# Altium footprint library Fuse.PcbLib: 117 footprints (part 8 of 8)
Each footprint in its own frame and in the unit in brackets; x right, y up, seen from the top. Pads: shape width x height; smd on the part's side, far side on the other; paste and mask are expansions set on the pad; w line width, h text height; cw(c..) or ccw(c..) is an arc to the next point about the centre after c.
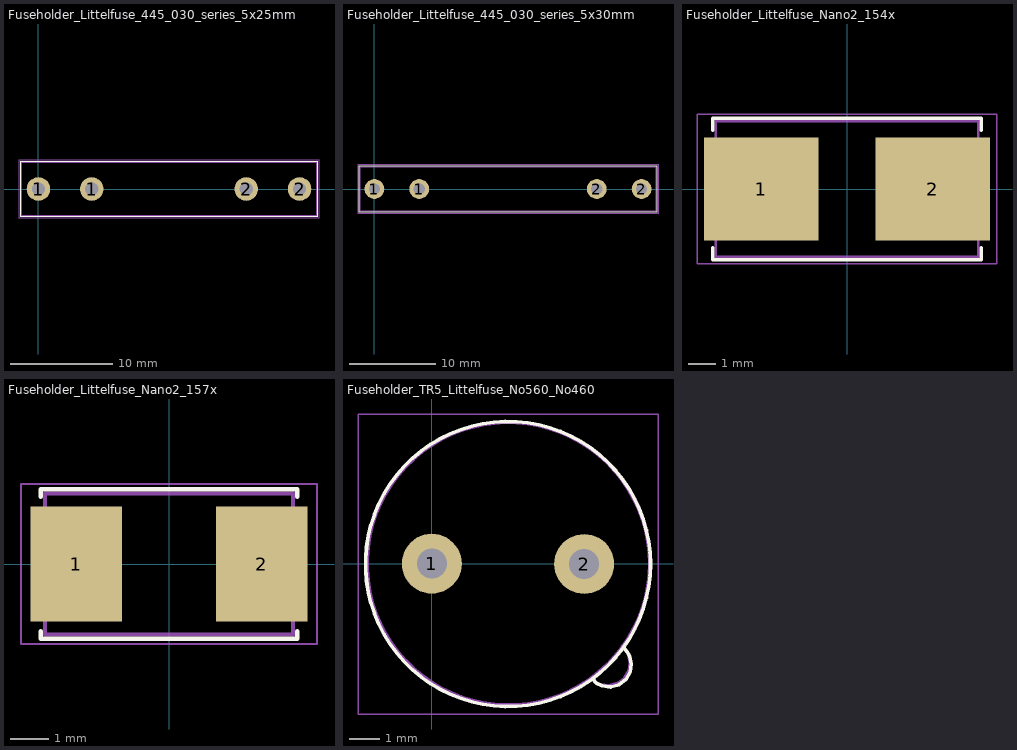
[diagram p7: the footprints below, top view; thin cyan lines are the x and y axes]

## Fuseholder_Littelfuse_445_030_series_5x25mm [mm]
pads (4):
  round 2.3 hole 1.3: 1(0,0) 1(5.2,0) 2(20.3,0) 2(25.5,0)
F.SilkS:
  lines w0.12: -1.75,-2.7 27.25,-2.7 27.25,2.7 -1.75,2.7 -1.75,-2.7
F.CrtYd:
  lines w0.05: -1.9,-2.85 -1.9,2.85 27.4,2.85 27.4,-2.85 -1.9,-2.85
F.Fab:
  lines w0.1: -1.65,-2.6 27.15,-2.6 27.15,2.6 -1.65,2.6 -1.65,-2.6
  text "'.Designator'" at 8.703,-0.84 h1

## Fuseholder_Littelfuse_445_030_series_5x30mm [mm]
pads (4):
  round 2.3 hole 1.3: 1(0,0) 1(5.2,0) 2(25.8,0) 2(31,0)
F.SilkS:
  lines w0.12: -1.75,-2.7 32.75,-2.7 32.75,2.7 -1.75,2.7 -1.75,-2.7
F.CrtYd:
  lines w0.05: -1.9,-2.85 -1.9,2.85 32.9,2.85 32.9,-2.85 -1.9,-2.85
F.Fab:
  lines w0.1: -1.65,-2.6 32.65,-2.6 32.65,2.6 -1.65,2.6 -1.65,-2.6
  text "'.Designator'" at 11.453,-0.84 h1

## Fuseholder_Littelfuse_Nano2_154x [mm]
pads (2):
  rect 4.24x3.81 smd: 1(-3.185,0) 2(3.185,0)
F.SilkS:
  lines w0.12: -4.975,-2.165 -4.975,-2.625 4.975,-2.625 4.975,-2.165 ; -4.975,2.165 -4.975,2.625 4.975,2.625 4.975,2.165
F.CrtYd:
  lines w0.05: -5.56,-2.77 5.56,-2.77 5.56,2.77 -5.56,2.77 -5.56,-2.77
F.Fab:
  lines w0.1: -4.865,-2.515 -4.865,2.515 4.865,2.515 4.865,-2.515 -4.865,-2.515
  text "'.Designator'" at -4.047,-0.84 h1

## Fuseholder_Littelfuse_Nano2_157x [mm]
pads (2):
  rect 2.4x3 smd: 1(-2.43,0) 2(2.43,0)
F.SilkS:
  lines w0.12: -3.36,-1.76 -3.36,-1.96 3.36,-1.96 3.36,-1.76 ; -3.36,1.76 -3.36,1.96 3.36,1.96 3.36,1.76
F.CrtYd:
  lines w0.05: -3.88,-2.1 -3.88,2.1 3.88,2.1 3.88,-2.1 -3.88,-2.1
F.Fab:
  lines w0.1: -3.25,-1.85 -3.25,1.85 3.25,1.85 3.25,-1.85 -3.25,-1.85
  text "'.Designator'" at -4.047,-0.84 h1

## Fuseholder_TR5_Littelfuse_No560_No460 [mm]
pads (2):
  round 2 hole 1: 1(0,0) 2(5.08,-0.01)
F.SilkS:
  circle w0.12: c2.54,-0.01 r4.75
  lines w0.12: 5.36,-3.84 5.49,-3.99 5.67,-4.07 5.96,-4.11 6.25,-4.03 6.47,-3.86 6.62,-3.6 6.65,-3.34 6.6,-3.09 6.51,-2.93 6.39,-2.79
F.CrtYd:
  lines w0.05: -2.46,-5.01 7.54,-5.01 7.54,4.99 -2.46,4.99 -2.46,-5.01
F.Fab:
  circle w0.1: c2.55,0 r4.7
  lines w0.1: 5.31,-3.79 5.44,-3.94 5.62,-4.02 5.91,-4.06 6.2,-3.98 6.42,-3.81 6.57,-3.55 6.6,-3.29 6.55,-3.04 6.46,-2.88 6.34,-2.74
  text "'.Designator'" at -1.297,1.91 h1